# Altium schematic symbol library Connectors_RF.SchLib: 12 symbols
Pins are listed as number, name and electrical type; pins without a type are passive.

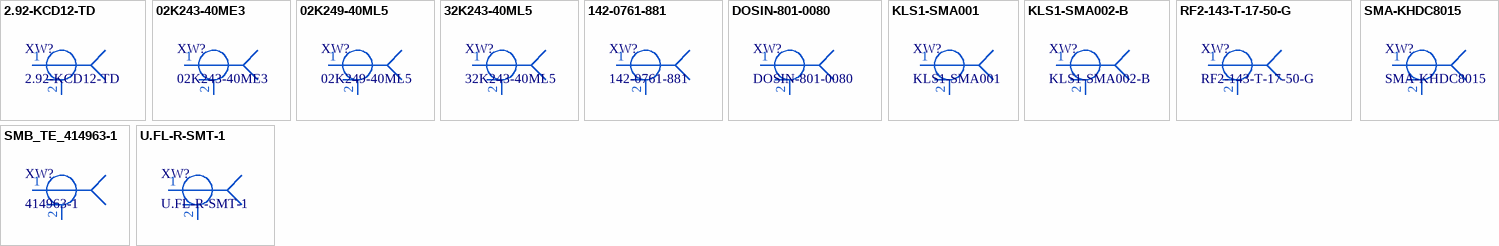
[diagram p0: symbols 2.92-KCD12-TD to U.FL-R-SMT-1]

## 2.92-KCD12-TD
designator XW?
RPC-2.92 Right Angle Jack PCB; Manufacturer: Renhotec RF; Impedance: 50; Frequency range: DC - 40GHz; ItemType: Connector; PartNumber: 2.92-KCD12-TD; ItemSubType: RPC-2.92; Mounting: SMD
footprint 2.92-KCD12-TD_0_20GHZ_VER1
footprint 2.92-KCD12-TD_20_40GHZ
footprint 2.92-KCD12-TD_0_20GHZ_Ver2
footprint 2.92-KCD12-TD_0.34mm_0.305mm
pins: 1, 2

## 02K243-40ME3
designator XW?
RPC-2.92 Right Angle Jack PCB; Manufacturer: Rosenberger; Impedance: 50; Frequency range: DC - 40GHz; ItemType: Connector; Alternative1: 2.92-KWT; PartNumber: 02K243-40ME3; ItemSubType: RPC-2.92; AltManufacturer1: ?; Mounting: THT
footprint 02K243-40ME3 (Rosenberger SMA Right Angle Jack PCB)
footprint 02K243-40ME3_WITHOUT_SCREW (Right Angle Jack PCB RPC-2.92, 3D model without screw thread)
pins: 1, 2

## 02K249-40ML5
designator XW?
RPC-2.92 Right Angle Jack PCB; Manufacturer: Rosenberger; Impedance: 50; Frequency range: DC - 40GHz; ItemType: Connector; PartNumber: 02K249-40ML5; ItemSubType: RPC-2.92; Mounting: SMD
footprint 02K249-40ML5
footprint 02K249-40ML5_WITHOUT_SCREW (Right Angle Jack PCB RPC-2.92, 3D model without screw thread)
pins: 1, 2

## 32K243-40ML5
designator XW?
SMA Right Angle Jack PCB; Manufacturer: Rosenberger; Impedance: 50; Frequency range: DC - 18GHz; ItemType: Connector; ItemSubType: SMA R/A; Alternative1: SMA-KHD95; PartNumber: 32K243-40ML5; AltManufacturer1: ?; Mounting: THT
footprint 32K243-40ML5 (Rosenberger SMA Right Angle Jack PCB)
footprint 32K243-40ML5_WITHOUT_SCREW (Right Angle Jack PCB SMA, 3D model without screw thread)
pins: 1, 2

## 142-0761-881
designator XW?
SMA Jack edge mount connector; Manufacturer: Johnson; Impedance: 50; Frequency range: DC - 26.5GHz; ItemSubType: SMA Edge; PartNumber: 142-0761-881; ItemType: Connector; Mounting: THT
footprint 142-0761-881
pins: 1, 2

## DOSIN-801-0080
designator XW?
BNC Connector; Manufacturer: dosinconn; Impedance: 50; Frequency range: DC - 3GHz; PartNumber: DOSIN-801-0080; ItemType: Connector; ItemSubType: BNC; Mounting: THT
footprint DOSIN-801-0080_WITHOUT_SCREW (BNC Connector)
footprint DOSIN-801-0080 (BNC Connector)
pins: 1, 2

## KLS1-SMA001
designator XW?
SMA Connector; Manufacturer: KLS; Impedance: 50; Frequency range: DC - 18GHz; ItemSubType: SMA Vertical; PartNumber: KLS1-SMA001; ItemType: Connector; Mounting: THT
footprint KLS1-SMA001
footprint KLS1-SMA001_WITHOUT_SCREW (Vertical Jack PCB SMA, 3D model without screw thread)
pins: 1, 2

## KLS1-SMA002-B
designator XW?
Right angle SMA Connector; Manufacturer: KLS; Impedance: 50; Frequency range: DC - 18GHz; ItemSubType: SMA Right angle; PartNumber: KLS1-SMA002-B; ItemType: Connector; Mounting: THT
footprint KLS1-SMA002-B (Right angle Jack PCB SMA)
footprint KLS1-SMA002-B_WITHOUT_SCREW (Right angle Jack PCB SMA, 3D model without screw thread)
pins: 1, 2

## RF2-143-T-17-50-G
designator XW?
SMA Jack edge mount connector; Manufacturer: Adam Tech; Impedance: 50; Frequency range: DC - 18GHz; ItemSubType: SMA Edge; PartNumber: RF2-143-T-17-50-G; ItemType: Connector; Mounting: SMD
footprint RF2-143-T-17-50-G (SMA Connector)
footprint RF2-143-T-17-50-G_WITHOUT_SCREW (SMA Connector, 3D model without screw thread)
pins: 1, 2

## SMA-KHDC8015
designator XW?
SMA Connector; Manufacturer: ООО "Амитрон электроникс"; Impedance: 50; Frequency range: DC - 26.5GHz; ItemSubType: SMA Edge; PartNumber: SMA-KHDC8015; ItemType: Connector; Mounting: SMD
footprint SMA-KHDC8015 (A=1.5)
pins: 1, 2

## SMB_TE_414963-1
designator XW?, comment 414963-1
SMB Connector, 50 ohm, 4 GHz, Panel Mount; Manufacturer: TE Connectivity; Impedance: 50; Frequency range: DC - 4GHz; ItemSubType: SMB Edge; PartNumber: 414963-1; ItemType: Connector; Mounting: THT
footprint 414963-1 (Right angle Jack PCB SMB)
pins: 1, 2

## U.FL-R-SMT-1
designator XW?
U.FL Surface Mount Coaxial Connector; Manufacturer: Hirose; AltManufacturer1: Adam Tech; Impedance: 50; Frequency range: DC - 6GHz; Alternative1: RF20-01B-L-00-50-G-T/R; PartNumber: U.FL-R-SMT-1; ItemType: Connector; ItemSubType: U.FL; Mounting: SMD
footprint U.FL-R-SMT-1 (U.FL Surface Mount Coaxial Connector)
pins: 1, 2